# Altium schematic symbol library PNP-E1B2C3.SchLib: 1 symbol
Pins are listed as number, name and electrical type; pins without a type are passive.

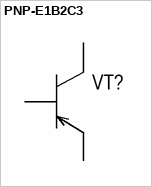
[diagram p0: symbol PNP-E1B2C3]

## PNP-E1B2C3
designator VT?
pins: 1 E, 2 B, 3 K
2 alternate drawings of the same symbol